# EAGLE library part SA40-18SURKWA (library SamacSys_Parts)
101.2mm (4.0INCH) SINGLE DIGIT NUMERIC DISPLAY Source: Datasheet <http://www.kingbrightusa.com/images/catalog/SPEC/SA40-18SURKWA.pdf>
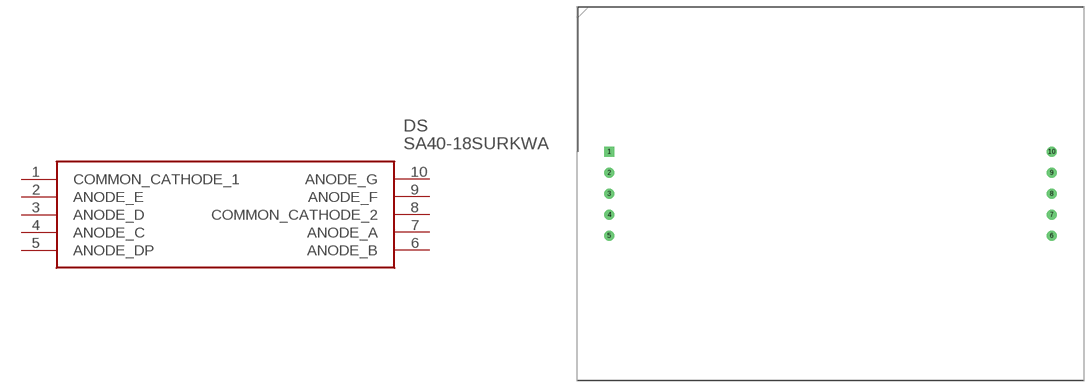
[diagram p3: symbol with the pads of DIPS10700W140P508L9000H1525Q10; footprint DIPS10700W140P508L9000H1525Q10]

Designator prefix DS

## SA40-18SURKWA (ARROW_PART_NUMBER: SA40-18SURKWA; ARROW_PRICE-STOCK: https://www.arrow.com/en/products/sa40-18surkwa/kingbright; DESCRIPTION: 101.2mm (4.0INCH) SINGLE DIGIT NUMERIC DISPLAY; HEIGHT: 15.25mm; MANUFACTURER_NAME: Kingbright; MANUFACTURER_PART_NUMBER: SA40-18SURKWA; MOUSER_PART_NUMBER: 604-SA40-18SURKWA; MOUSER_PRICE-STOCK: https://www.mouser.com/Search/Refine.aspx?Keyword=604-SA40-18SURKWA)  [DIPS10700W140P508L9000H1525Q10]
1  COMMON_CATHODE_1
2  ANODE_E
3  ANODE_D
4  ANODE_C
5  ANODE_DP
6  ANODE_B
7  ANODE_A
8  COMMON_CATHODE_2
9  ANODE_F
10  ANODE_G

## Footprint DIPS10700W140P508L9000H1525Q10 (pad centres in mm)
101.2mm (4.0INCH) SINGLE DIGIT NUMERIC DISPLAY
drill 1.6 pad 2.4 square: 1 0,0
drill 1.6 pad 2.4: 2 0,-5.08; 3 0,-10.16; 4 0,-15.24; 5 0,-20.32; 6 107,-20.32; 7 107,-15.24; 8 107,-10.16; 9 107,-5.08; 10 107,0